# Altium footprint library OKmePCBLibrary.PcbLib: 194 footprints (part 3 of 13)
Each footprint in its own frame and in the unit in brackets; x right, y up, seen from the top. Pads: shape width x height; smd on the part's side, far side on the other; paste and mask are expansions set on the pad; w line width, h text height; cw(c..) or ccw(c..) is an arc to the next point about the centre after c.
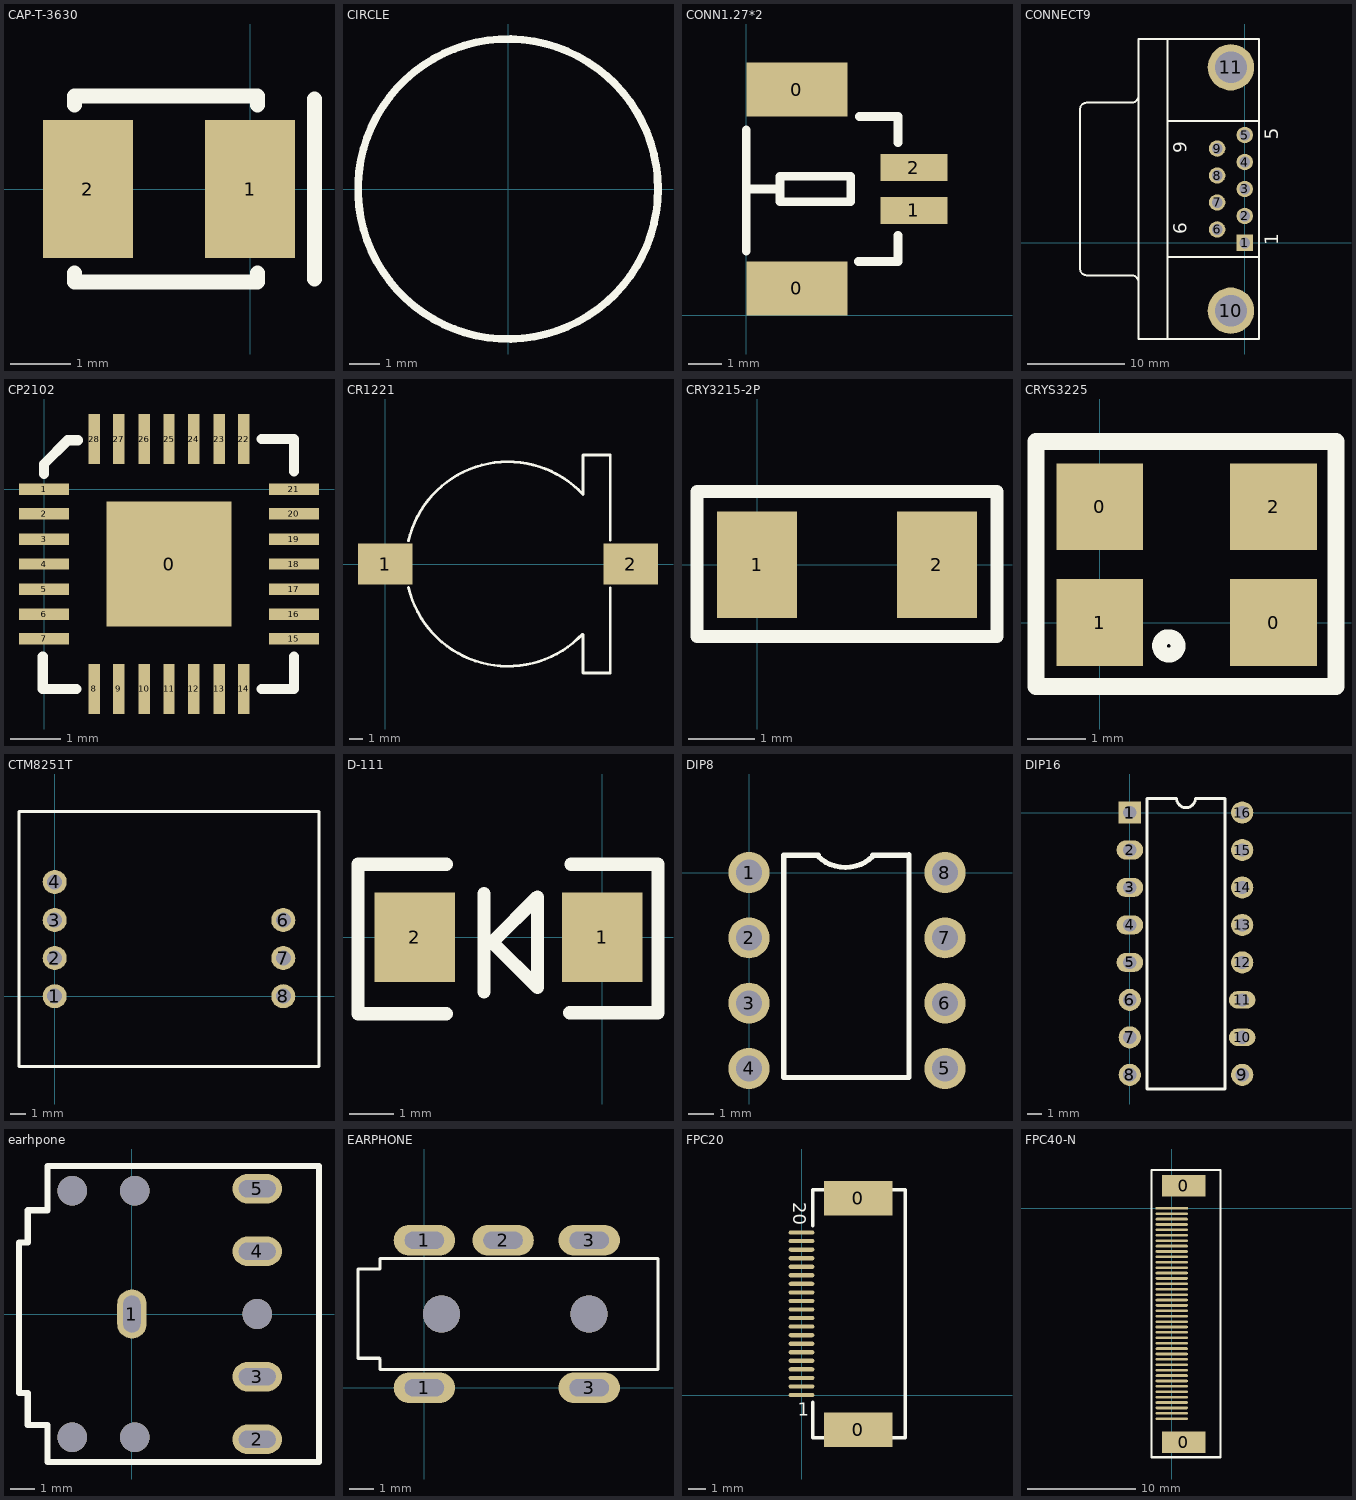
[diagram p2: the footprints below, top view; thin cyan lines are the x and y axes]

## CAP-T-3630 [mm]
pads (2):
  rect 1.5x2.3 smd: 1(0,0) 2(-2.7,0)
Top Overlay:
  lines w0.254: -2.925,-1.4 -2.925,-1.55 0.125,-1.55 ; -2.925,1.4 -2.925,1.525 ; -2.925,1.55 0.125,1.55 0.125,1.4 ; 0.125,-1.525 0.125,-1.4 ; 1.075,-1.5 1.075,1.5

## CIRCLE [mm]
Top Overlay:
  circle w0.254: c0,0 r5

## CONN1.27*2 [mm]
pads (4):
  rect 3x1.6 smd: 0(1.5,0.8) 0(1.5,6.7)
  rect 2x0.8 smd: 1(4.975,3.115) 2(4.975,4.385)
Top Overlay:
  lines w0.254: 0,1.9 0,5.5 ; 0,3.75 1,3.75 ; 3.325,1.6 4.5,1.6 4.5,2.375 ; 3.35,5.9 4.5,5.9 4.5,5.125 ; 1,3.75 1,4.125 3.1,4.125 3.1,3.375 1,3.375 1,3.75

## CONNECT9 [mm]
pads (11):
  rect 1.69x1.69 hole 1.09: 1(0,0)
  round 1.69 hole 1.09: 2(0,2.77) 3(0,5.54) 4(0,8.31) 5(0,11.08) 6(-2.84,1.385) 7(-2.84,4.155) 8(-2.84,6.925) 9(-2.84,9.695)
  round 4.76 hole 3.26: 10(-1.42,-6.955) 11(-1.42,18.035)
Top Overlay:
  lines w0.2: -16.225,-3.32 cw(c-16.225,-2.625) -16.92,-2.625 -16.92,13.705 cw(c-16.225,13.705) -16.225,14.4 ; -16.22,-3.325 -11.62,-3.325 cw(c-11.62,-4.02) -10.925,-4.02 ; -16.22,14.405 -11.62,14.405 ccw(c-11.62,15.1) -10.925,15.1 ; -7.92,-9.86 -7.92,20.94 ; -7.92,-1.46 1.48,-1.46 ; -7.92,12.54 1.48,12.54 ; -10.92,-9.86 -10.92,20.94 1.48,20.94 1.48,-9.86 -10.92,-9.86
  text "6" at -5.945,0.885 h1.4
  text "9" at -5.945,9.195 h1.4
  text "5" at 3.455,10.58 h1.4
  text "1" at 3.455,-0.25 h1.4

## CP2102 [mm]
pads (29):
  rect 2.5x2.5 smd: 0(2.5,-1.5)
  rect 1x0.23 smd: 1(0,0) 2(0,-0.5) 3(0,-1) 4(0,-1.5) 5(0,-2) 6(0,-2.5) 7(0,-3) 15(5,-3) 16(5,-2.5) 17(5,-2) 18(5,-1.5) 19(5,-1) 20(5,-0.5) 21(5,0)
  rect 0.23x1 smd: 8(1,-4) 9(1.5,-4) 10(2,-4) 11(2.5,-4) 12(3,-4) 13(3.5,-4) 14(4,-4) 22(4,1) 23(3.5,1) 24(3,1) 25(2.5,1) 26(2,1) 27(1.5,1) 28(1,1)
Top Overlay:
  lines w0.203: -0.025,-3.35 -0.025,-4 0.65,-4 ; 0,0.3 0,0.5 0.475,0.975 0.675,0.975 ; 4.35,-4 5,-4 5,-3.35 ; 4.35,1 5,1 5,0.35

## CR1221 [mm]
pads (2):
  rect 4x3 smd: 1(0,0) 2(18,0)
Top Overlay:
  lines w0.203: 1.698,1.712 cw(c9,0) 14.5,5.1 ; 1.702,-1.73 ccw(c9,0) 14.451,-5.151 ; 14.5,-5.175 14.5,-8 16.5,-8 16.5,-1.75 ; 14.5,5.1 14.5,8 16.5,8 16.5,1.75

## CRY3215-2P [mm]
pads (2):
  rect 1.2x1.6 smd: 1(0,0) 2(2.7,0)
Top Overlay:
  lines w0.2: -0.9,-1.075 3.6,-1.075 3.6,1.1 -0.9,1.1 -0.9,-1.075

## CRYS3225 [mm]
pads (4):
  rect 1.5x1.5 smd: 0(0,2) 0(3,0) 1(0,0) 2(3,2)
Top Overlay:
  circle w0.254: c1.19,-0.4 r0.16
  lines w0.3: -1.1,-1.1 -1.1,3.125 4.075,3.125 4.075,-1.1 -1.1,-1.1

## CTM8251T [mm]
pads (7):
  round 1.6 hole 1: 1(0,0) 2(0,2.54) 3(0,5.08) 4(0,7.62) 6(15.24,5.08) 7(15.24,2.54) 8(15.24,0)
Top Overlay:
  lines w0.2: -2.38,-4.685 17.62,-4.685 17.62,12.315 -2.38,12.315 -2.38,-4.685

## D-111 [mm]
pads (2):
  rect 1.8x2 smd: 1(0,0) 2(-4.2,0)
Top Overlay:
  lines w0.3: -3.5,-1.716 -5.475,-1.716 -5.475,1.634 -3.5,1.634 ; -2.65,-1.225 -2.65,0.975 ; -0.725,-1.691 1.25,-1.691 1.25,1.634 -0.7,1.634 ; -2.463,-0.112 -1.45,0.9 -1.45,-1.125 -2.463,-0.112

## DIP8 [mm]
pads (8):
  round 1.6 hole 1: 1(0,0) 2(0,-2.54) 3(0,-5.08) 4(0,-7.62) 5(7.62,-7.62) 6(7.62,-5.08) 7(7.62,-2.54) 8(7.62,0)
Top Overlay:
  lines w0.203: 2.671,0.646 ccw(c3.75,1.725) 4.829,0.646 ; 2.7,0.675 1.35,0.675 1.35,-7.975 ; 4.8,0.675 6.2,0.675 6.225,0.7 6.225,-7.975 1.35,-7.975 ; 1.35,-7.975 1.35,-7.975

## DIP16 [mm]
pads (16):
  rect 1.5x1.5 hole 0.9: 1(0,0)
  oval 1.8x1.3 hole 0.9: 2(0,-2.54) 3(0,-5.08) 4(0,-7.62) 5(0,-10.16)
  round 1.5 hole 0.9: 6(0,-12.7) 7(0,-15.24) 8(0,-17.78) 9(7.62,-17.78) 12(7.62,-10.16) 13(7.62,-7.62) 14(7.62,-5.08) 15(7.62,-2.54) 16(7.62,0)
  oval 1.8x1.2 hole 0.9: 10(7.62,-15.24) 11(7.62,-12.7)
Top Overlay:
  lines w0.2: 1.16,-18.74 1.16,0.96 3.175,0.96 ccw(c3.81,0.96) 4.445,0.96 6.46,0.96 6.46,-18.74 1.16,-18.74

## earhpone [mm]
pads (5):
  oval 1.2x2 hole 0.7 slot 1.5 at 90 deg: 1(0,0)
  oval 2x1.2 hole 0.7 slot 1.5 at 0 deg: 2(5.08,-5.08) 3(5.08,-2.54) 4(5.08,2.54) 5(5.08,5.08)
via -2.42,5 diameter 1.2 hole 1.2
via 0.12,5 diameter 1.2 hole 1.2
via -2.42,-5 diameter 1.2 hole 1.2
via 0.12,-5 diameter 1.2 hole 1.2
via 5.08,0 diameter 1.2 hole 1.2
Top Overlay:
  lines w0.254: -4.575,-3.2 -4.22,-3.2 -4.22,-4.5 -3.42,-4.5 -3.42,-6 7.58,-6 7.58,6 -3.42,6 -3.42,4.2 -4.22,4.2 -4.22,2.9 -4.575,2.9 -4.575,-3.2

## EARPHONE [mm]
pads (5):
  oval 2.5x1.25 hole 0.7 slot 1.6 at 0 deg: 1(0,0) 1(0,6) 2(3.2,6) 3(6.7,0) 3(6.7,6)
via 6.7,3 diameter 1.5 hole 1.5
via 0.7,3 diameter 1.5 hole 1.5
Top Overlay:
  lines w0.127: -2.7,1.2 -1.825,1.2 -1.8,1.175 -1.8,0.75 9.5,0.75 9.5,1.5 9.5,5.25 -1.8,5.25 -1.8,4.825 -2.7,4.825 -2.7,1.2

## FPC20 [mm]
pads (22):
  rect 4x2 smd: 0(3.327,-2.032) 0(3.327,11.506)
  oval 1.5x0.25 smd: 1(0,0) 2(0,0.5) 3(0,1) 4(0,1.5) 5(0,2) 6(0,2.5) 7(0,3) 8(0,3.5) 9(0,4) 10(0,4.5) 11(0,5) 12(0,5.5) 13(0,6) 14(0,6.5) 15(0,7) 16(0,7.5) 17(0,8) 18(0,8.5) 19(0,9) 20(0,9.5)
Top Overlay:
  lines w0.2: 0.668,-2.5 6.053,-2.5 ; 0.668,-2.489 0.668,-0.432 ; 0.668,9.881 0.668,11.989 ; 0.668,12 6.053,12 ; 6.068,-2.489 6.068,11.989
  text "1" at -0.221,-1.219 h0.76
  text "20" at -0.475,11.278 h0.76

## FPC40-N [mm]
pads (42):
  rect 4x2 smd: 0(1.12,-21.695) 0(1.12,2.104)
  oval 3x0.25 smd: 1(0,-19.5) 2(0,-19) 3(0,-18.5) 4(0,-18) 5(0,-17.5) 6(0,-17) 7(0,-16.5) 8(0,-16) 9(0,-15.5) 10(0,-15) 11(0,-14.5) 12(0,-14) 13(0,-13.5) 14(0,-13) 15(0,-12.5) 16(0,-12) 17(0,-11.5) 18(0,-11) 19(0,-10.5) 20(0,-10) 21(0,-9.5) 22(0,-9) 23(0,-8.5) 24(0,-8) 25(0,-7.5) 26(0,-7) 27(0,-6.5) 28(0,-6) 29(0,-5.5) 30(0,-5) 31(0,-4.5) 32(0,-4) 33(0,-3.5) 34(0,-3) 35(0,-2.5) 36(0,-2) 37(0,-1.5) 38(0,-1) 39(0,-0.5)
  rect 3x0.25 smd: 40(0,-0.001)
Top Overlay:
  lines w0.2: 4.52,0.75 4.52,-23.075 -1.875,-23.075 -1.875,3.55 4.52,3.55 4.52,0.775